# Altium footprint library SM_SOT23_BASE_EMITTER_COLLECTOR.PcbLib: 1 footprints
Each footprint in its own frame and in the unit in brackets; x right, y up, seen from the top. Pads: shape width x height; smd on the part's side, far side on the other; paste and mask are expansions set on the pad; w line width, h text height; cw(c..) or ccw(c..) is an arc to the next point about the centre after c.
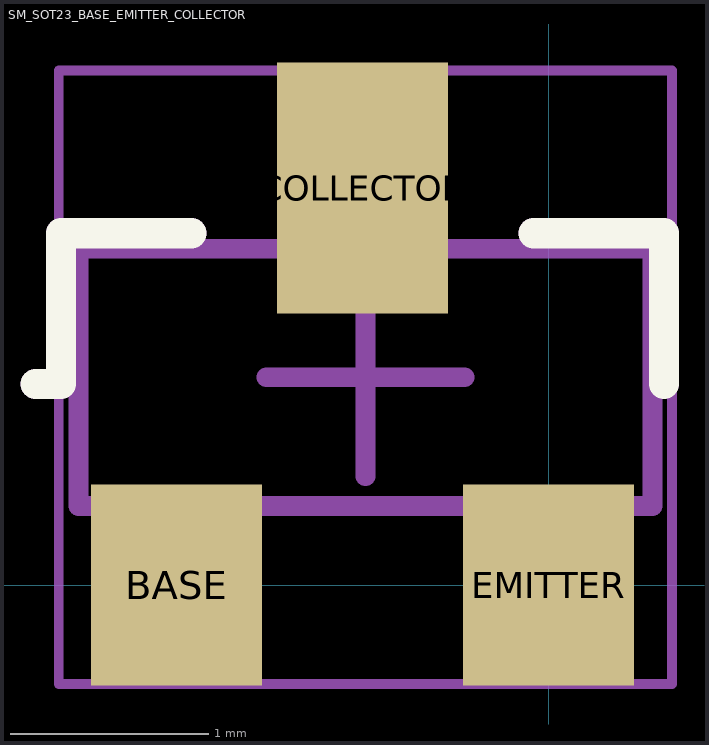
[diagram p0: the footprint, top view; thin cyan lines are the x and y axes]

## SM_SOT23_BASE_EMITTER_COLLECTOR [mil]
pads (3):
  rect 34x40 smd: BASE(-74,0) EMITTER(0,0)
  rect 34x50 smd: COLLECTOR(-37,79)
Top Overlay:
  lines w6: -102,40 -97,40 -97,70 -71,70 ; -3,70 23,70 23,40
Mechanical 1:
  lines w6: -102,40 -97,40 -97,70 -71,70 ; -3,70 23,70 23,40
Mechanical 13:
  lines w3.94: -93.5,15.75 -93.5,66.93 20.67,66.93 20.67,15.75 -93.5,15.75
Mechanical 15:
  lines w1.97: -97.44,-19.68 -97.44,102.36 24.61,102.36 24.61,-19.68 -97.44,-19.68
  lines w3.94: -56.1,41.34 -16.73,41.34 ; -36.42,21.65 -36.42,61.02
3D body: height 43.31, standoff 0.51, extent -93.5,15.75 20.67,66.93